# Altium footprint library SamacSys.PcbLib: 61 footprints (part 4 of 4)
Each footprint in its own frame and in the unit in brackets; x right, y up, seen from the top. Pads: shape width x height; smd on the part's side, far side on the other; paste and mask are expansions set on the pad; w line width, h text height; cw(c..) or ccw(c..) is an arc to the next point about the centre after c.
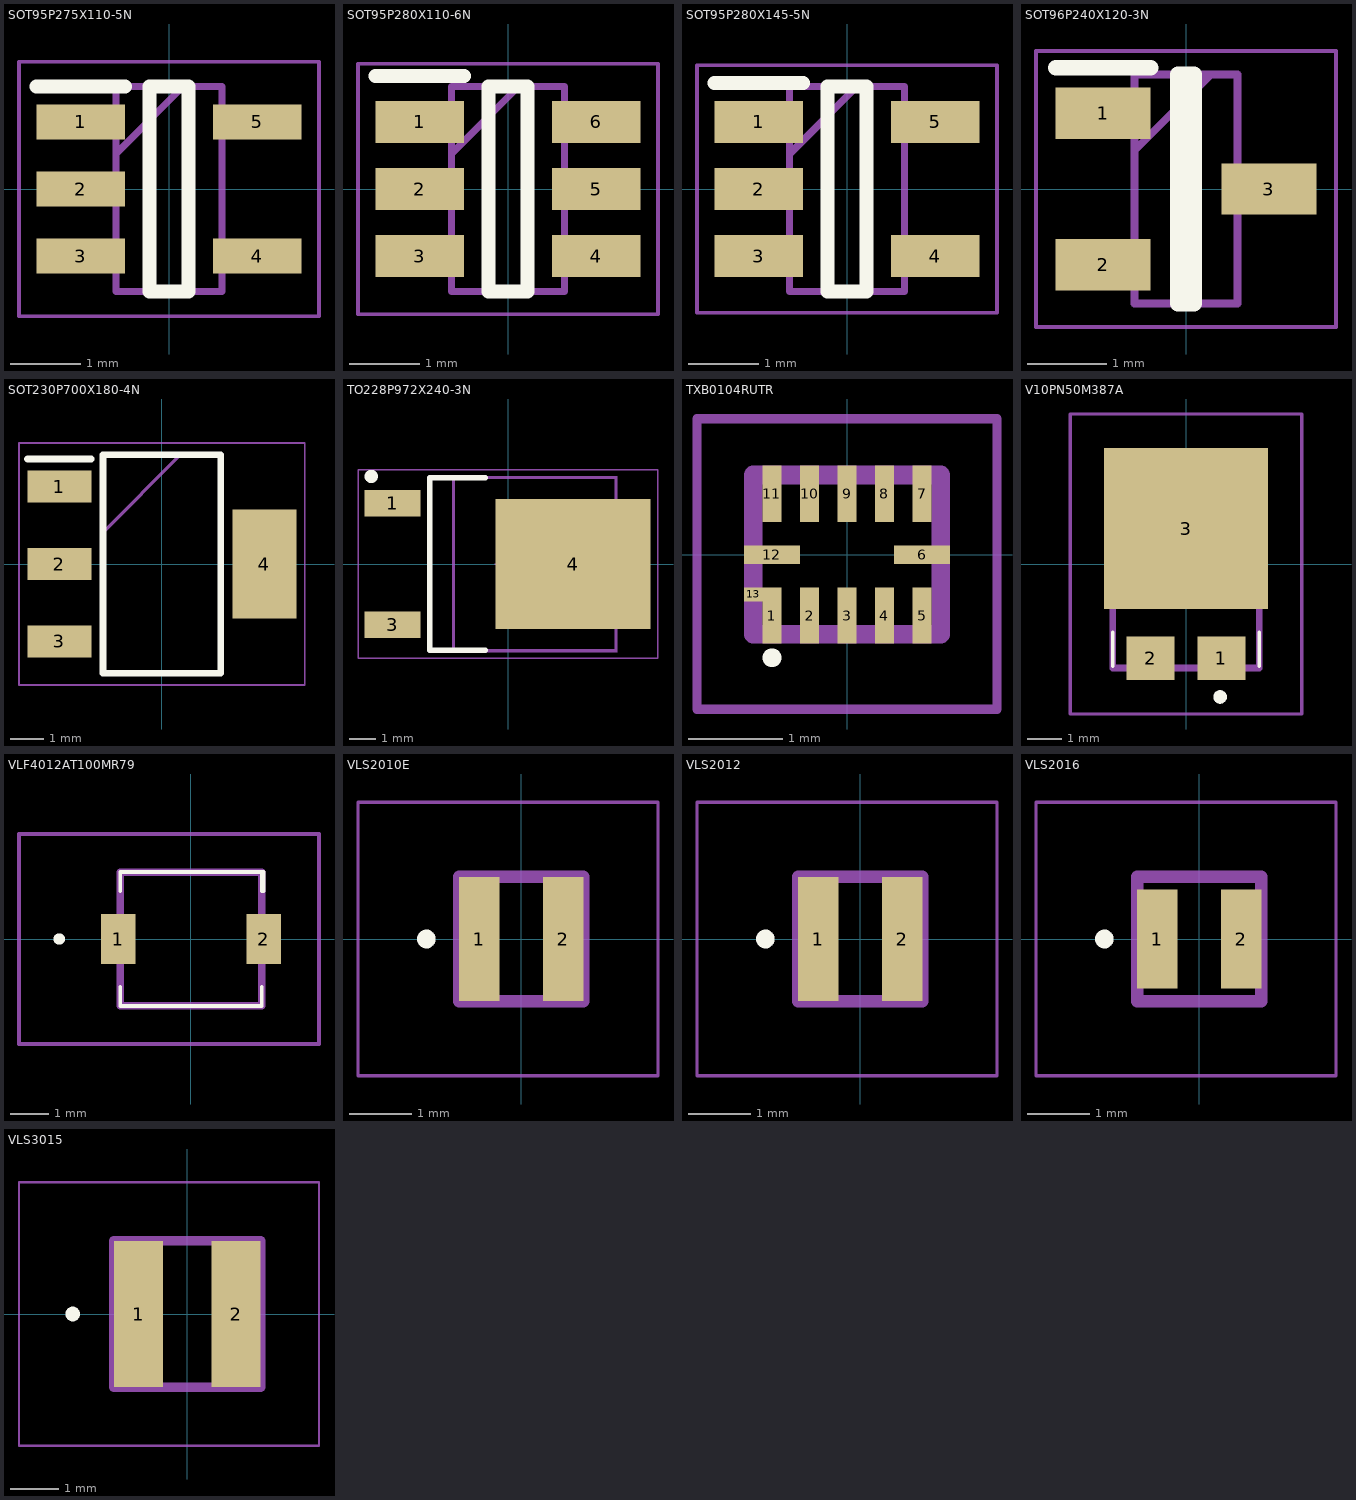
[diagram p3: the footprints below, top view; thin cyan lines are the x and y axes]

## SOT95P275X110-5N [mm]
pads (5):
  rect 1.25x0.5 smd: 1(-1.25,0.95) 2(-1.25,0) 3(-1.25,-0.95) 4(1.25,-0.95) 5(1.25,0.95)
Top Overlay:
  lines w0.2: -1.875,1.45 -0.625,1.45 ; -0.275,-1.45 -0.275,1.45 0.275,1.45 0.275,-1.45 -0.275,-1.45
Mechanical 13:
  lines w0.1: -0.75,0.5 0.2,1.45 ; -0.75,-1.45 -0.75,1.45 0.75,1.45 0.75,-1.45 -0.75,-1.45
Mechanical 15:
  lines w0.05: -2.125,-1.8 -2.125,1.8 2.125,1.8 2.125,-1.8 -2.125,-1.8
3D body "74LVC1G04GV,125.stp": height 1.1, standoff 0, extent -1.375,-1.45 1.375,1.45

## SOT95P280X110-6N [mm]
pads (6):
  rect 1.25x0.6 smd: 1(-1.25,0.95) 2(-1.25,0) 3(-1.25,-0.95) 4(1.25,-0.95) 5(1.25,0) 6(1.25,0.95)
Top Overlay:
  lines w0.2: -1.875,1.6 -0.625,1.6 ; -0.275,-1.45 0.275,-1.45 0.275,1.45 -0.275,1.45 -0.275,-1.45
Mechanical 13:
  lines w0.1: -0.8,0.5 0.15,1.45 ; -0.8,-1.45 0.8,-1.45 0.8,1.45 -0.8,1.45 -0.8,-1.45
Mechanical 15:
  lines w0.05: -2.125,-1.775 2.125,-1.775 2.125,1.775 -2.125,1.775 -2.125,-1.775
3D body "LMR14203XMKE_NOPB.stp": height 1.1, standoff 0, extent -1.4,-1.45 1.4,1.45

## SOT95P280X145-5N [mm]
pads (5):
  rect 1.25x0.6 smd: 1(-1.25,0.95) 2(-1.25,0) 3(-1.25,-0.95) 4(1.25,-0.95) 5(1.25,0.95)
Top Overlay:
  lines w0.2: -1.875,1.5 -0.625,1.5 ; -0.275,-1.45 -0.275,1.45 0.275,1.45 0.275,-1.45 -0.275,-1.45
Mechanical 13:
  lines w0.1: -0.812,0.5 0.138,1.45 ; -0.812,-1.45 -0.812,1.45 0.812,1.45 0.812,-1.45 -0.812,-1.45
Mechanical 15:
  lines w0.05: -2.125,-1.75 -2.125,1.75 2.125,1.75 2.125,-1.75 -2.125,-1.75
3D body "MAX8863TEUK+.stp": height 1.45, standoff 0, extent -1.4,-1.45 1.4,1.45

## SOT96P240X120-3N [mm]
pads (3):
  rect 1.2x0.65 smd: 1(-1.05,0.96) 2(-1.05,-0.96) 3(1.05,0)
Top Overlay:
  lines w0.2: -1.65,1.535 -0.45,1.535 ; -0.1,-1.45 -0.1,1.45 0.1,1.45 0.1,-1.45 -0.1,-1.45
Mechanical 13:
  lines w0.1: -0.65,0.49 0.31,1.45 ; -0.65,-1.45 -0.65,1.45 0.65,1.45 0.65,-1.45 -0.65,-1.45
Mechanical 15:
  lines w0.05: -1.9,-1.75 -1.9,1.75 1.9,1.75 1.9,-1.75 -1.9,-1.75
3D body "2N7002.stp": height 1.2, standoff 0, extent -1.2,-1.45 1.2,1.45

## SOT230P700X180-4N [mm]
pads (4):
  rect 1.9x0.95 smd: 1(-3.05,2.3) 2(-3.05,0) 3(-3.05,-2.3)
  rect 1.9x3.25 smd: 4(3.05,0)
Top Overlay:
  lines w0.2: -4,3.125 -2.1,3.125 ; -1.75,-3.25 -1.75,3.25 1.75,3.25 1.75,-3.25 -1.75,-3.25
Mechanical 13:
  lines w0.1: -1.75,0.95 0.55,3.25 ; -1.75,-3.25 -1.75,3.25 1.75,3.25 1.75,-3.25 -1.75,-3.25
Mechanical 15:
  lines w0.05: -4.25,-3.6 -4.25,3.6 4.25,3.6 4.25,-3.6 -4.25,-3.6
3D body "IRFL214PBF.stp": height 1.8, standoff 0, extent -3.5,-3.25 3.5,3.25

## TO228P972X240-3N [mm]
pads (3):
  rect 2.1x1 smd: 1(-4.35,2.28) 3(-4.35,-2.28)
  rect 5.85x4.9 smd: 4(2.45,0)
Top Overlay:
  circle w0.25: c-5.15,3.3 r0.125
  lines w0.2: -0.85,-3.25 -2.95,-3.25 -2.95,3.25 -0.85,3.25
Mechanical 13:
  lines w0.1: 4.062,-2.35 4.326,-2.35 4.863,-1.756 4.863,1.756 4.327,2.35 4.063,2.35 ; -2.037,-3.25 4.062,-3.25 4.062,3.25 -2.037,3.25 -2.037,-3.25
Mechanical 15:
  circle w0.05: c0,0 r0.35
  lines w0.001: -2.088,-3.3 4.112,-3.3 4.112,3.3 -2.088,3.3 -2.088,-3.3
  lines w0.05: -0.5,0 0.5,0 ; 0,-0.5 0,0.5 ; -5.65,-3.55 5.65,-3.55 5.65,3.55 -5.65,3.55 -5.65,-3.55

## TXB0104RUTR [mm]
pads (13):
  rect 0.2x0.6 smd: 1(-0.8,-0.65) 2(-0.4,-0.65) 3(0,-0.65) 4(0.4,-0.65) 5(0.8,-0.65) 7(0.8,0.65) 8(0.4,0.65) 9(0,0.65) 10(-0.4,0.65) 11(-0.8,0.65)
  rect 0.6x0.2 smd: 6(0.8,0) 12(-0.8,0)
  rect 0.2x0.15 smd: 13(-1,-0.425)
Top Overlay:
  lines w0.1: -0.85,-1.1 ccw(c-0.8,-1.1) -0.75,-1.1 ccw(c-0.8,-1.1) -0.85,-1.1
Mechanical 13:
  lines w0.2: -1,-0.85 1,-0.85 1,0.85 -1,0.85 -1,-0.85
Mechanical 15:
  lines w0.1: -1.6,-1.65 1.6,-1.65 1.6,1.45 -1.6,1.45 -1.6,-1.65
3D body "TXB0104RUTR.stp": height 0.55, standoff 0, extent -1,-0.85 1,0.85

## V10PN50M387A [mm]
pads (3):
  rect 1.4x1.27 smd: 1(1.04,-2.765) 2(-1.04,-2.765)
  rect 4.8x4.72 smd: 3(0,1.04)
Top Overlay:
  lines w0.1: -2.15,-3 -2.15,-2 ; 2.15,-3 2.15,-2
  lines w0.2: 1,-4 ccw(c1,-3.9) 1,-3.8 ccw(c1,-3.9) 1,-4
Mechanical 13:
  lines w0.2: -2.15,-3.05 -2.15,3.05 2.15,3.05 2.15,-3.05 -2.15,-3.05
Mechanical 15:
  lines w0.1: -3.4,-4.4 -3.4,4.4 3.4,4.4 3.4,-4.4 -3.4,-4.4
3D body "SS10P4-M3_86A.stp": height 1.3, standoff 0, extent -2.15,-3.273 2.15,3.05

## VLF4012AT100MR79 [mm]
pads (2):
  rect 0.9x1.3 smd: 1(-1.9,0) 2(1.9,0)
Top Overlay:
  lines w0.1: -1.85,-1.75 -1.85,-1.25 -1.85,-1.75 ; -1.85,-1.75 1.85,-1.75 ; -1.85,-1.75 1.85,-1.75 ; -1.85,1.75 1.85,1.75 ; -1.85,1.75 1.85,1.75 ; -1.85,1.75 -1.85,1.25 -1.85,1.75 ; 1.85,-1.75 1.85,-1.25 1.85,-1.75 ; 1.85,1.75 1.85,1.25 1.9,1.25 1.9,1.75 1.85,1.75
  lines w0.2: -3.5,0 ccw(c-3.45,0) -3.4,0 ; -3.5,0 cw(c-3.45,0) -3.4,0 ; -3.5,0 ccw(c-3.45,0) -3.4,0
Mechanical 13:
  lines w0.2: -1.85,-1.75 -1.85,1.75 1.85,1.75 1.85,-1.75 -1.85,-1.75
Mechanical 15:
  lines w0.1: -4.5,-2.75 -4.5,2.75 3.35,2.75 3.35,-2.75 -4.5,-2.75
3D body "VLF4012AT-100MR79.stp": height 1.3, standoff 0, extent -2.26,-1.75 2.26,1.75

## VLS2010E [mm]
pads (2):
  rect 0.65x2 smd: 1(-0.675,0) 2(0.675,0)
Top Overlay:
  circle w0.2: c-1.525,0 r0.05
Mechanical 13:
  lines w0.2: -1,-1 -1,1 1,1 1,-1 -1,-1
Mechanical 15:
  lines w0.05: -2.625,-2.2 -2.625,2.2 2.2,2.2 2.2,-2.2 -2.625,-2.2
3D body "VLS2010ET-100M.stp": height 1.1, standoff 0, extent -1,-1 1,1

## VLS2012 [mm]
pads (2):
  rect 0.65x2 smd: 1(-0.675,0) 2(0.675,0)
Top Overlay:
  circle w0.2: c-1.525,0 r0.05
Mechanical 13:
  lines w0.2: -1,-1 -1,1 1,1 1,-1 -1,-1
Mechanical 15:
  lines w0.05: -2.625,-2.2 -2.625,2.2 2.2,2.2 2.2,-2.2 -2.625,-2.2
3D body "VLS2012ET-3R3M.stp": height 1.3, standoff 0, extent -1,-1 1,1

## VLS2016 [mm]
pads (2):
  rect 0.65x1.6 smd: 1(-0.675,0) 2(0.675,0)
Top Overlay:
  circle w0.2: c-1.525,0 r0.05
Mechanical 13:
  lines w0.2: -1,-1 1,-1 1,1 -1,1 -1,-1
Mechanical 15:
  lines w0.05: -2.625,-2.2 2.2,-2.2 2.2,2.2 -2.625,2.2 -2.625,-2.2
3D body "VLS201610ET-3R3M.stp": height 0.99, standoff -0.01, extent -1,-0.8 1,0.8

## VLS3015 [mm]
pads (2):
  rect 1x3 smd: 1(-1,0) 2(1,0)
Top Overlay:
  circle w0.2: c-2.35,0 r0.05
Mechanical 13:
  lines w0.2: -1.5,-1.5 -1.5,1.5 1.5,1.5 1.5,-1.5 -1.5,-1.5
Mechanical 15:
  lines w0.05: -3.45,-2.7 -3.45,2.7 2.7,2.7 2.7,-2.7 -3.45,-2.7
3D body "VLS3015CX-100M-H.stp": height 1.5, standoff 0, extent -1.504,-1.509 1.505,1.509